# EAGLE library part STRIP_LED_18 (library CyberRailGuru)
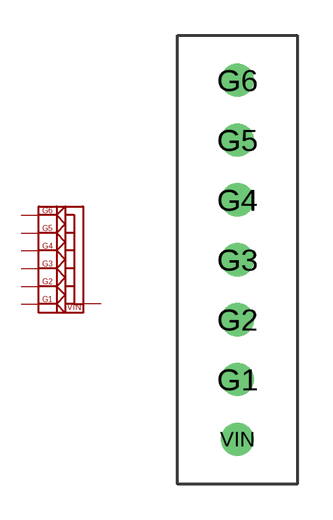
[diagram p8: symbol with the pads of STRIP_LED_18; footprint STRIP_LED_18]

Designator prefix U

## STRIP_LED_18  [STRIP_LED_18]
G1  G1
G2  G2
G3  G3
G4  G4
G5  G5
G6  G6
VIN  VIN

## Footprint STRIP_LED_18 (pad centres in mm)
drill 0.9: G1 2.54,4.445; G2 2.54,6.985; G3 2.54,9.525; G4 2.54,12.065; G5 2.54,14.605; G6 2.54,17.145; VIN 2.54,1.905